# EAGLE library part IMU-BREAKOUT-SPARKFUN (library omc-archive)
IMU - 6DOF Razor from Sparkfun order #: SEN-09431 <http://www.sparkfun.com/commerce/product_info.php?products_id=9431> Contains Gyros: LPR530AL <http://www.sparkfun.com/datasheets/Sensors/IMU/lpr530al.pdf> and LY530ALH <http://www.sparkfun.com/datasheets/Sensors/IMU/LY530ALH.pdf> ACC: ADXL335 <http://www.sparkfun.com/datasheets/Components/SMD/adxl335.pdf>
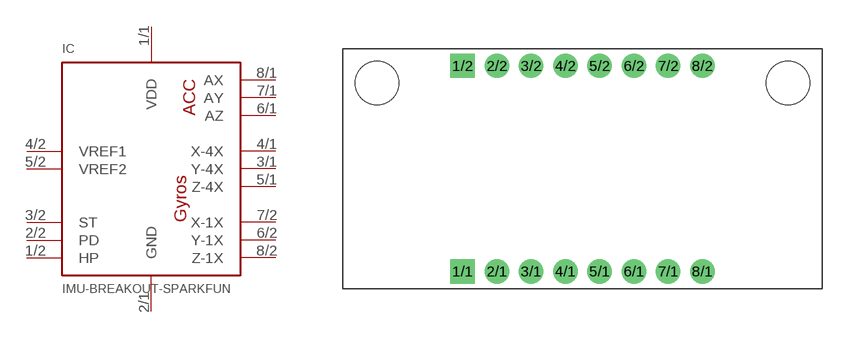
[diagram p0: symbol with the pads of IMU-BREAKOUT-SPARKFUN; footprint IMU-BREAKOUT-SPARKFUN]

Designator prefix IC

## IMU-BREAKOUT-SPARKFUN  [IMU-BREAKOUT-SPARKFUN]
1/1  VDD  pwr
1/2  HP  in
2/1  GND  pwr
2/2  PD  in
3/1  Y-4X  out
3/2  ST  in
4/1  X-4X  out
4/2  VREF1  in
5/1  Z-4X  out
5/2  VREF2  in
6/1  AZ  out
6/2  Y-1X  out
7/1  AY  out
7/2  X-1X  out
8/1  AX  out
8/2  Z-1X  out

## Footprint IMU-BREAKOUT-SPARKFUN (pad centres in mm)
drill 1 pad 1.8 square: 1/1 8.89,1.27; 1/2 8.89,16.51
drill 1 pad 1.8 round: 2/1 11.43,1.27; 2/2 11.43,16.51; 3/1 13.97,1.27; 3/2 13.97,16.51; 4/1 16.51,1.27; 4/2 16.51,16.51; 5/1 19.05,1.27; 5/2 19.05,16.51; 6/1 21.59,1.27; 6/2 21.59,16.51; 7/1 24.13,1.27; 7/2 24.13,16.51; 8/1 26.67,1.27; 8/2 26.67,16.51
hole 3.2 at 2.54,15.24
hole 3.2 at 33.02,15.24